# Altium footprint library airu-board.PCBLIB: 118 footprints (part 7 of 8)
Each footprint in its own frame and in the unit in brackets; x right, y up, seen from the top. Pads: shape width x height; smd on the part's side, far side on the other; paste and mask are expansions set on the pad; w line width, h text height; cw(c..) or ccw(c..) is an arc to the next point about the centre after c.
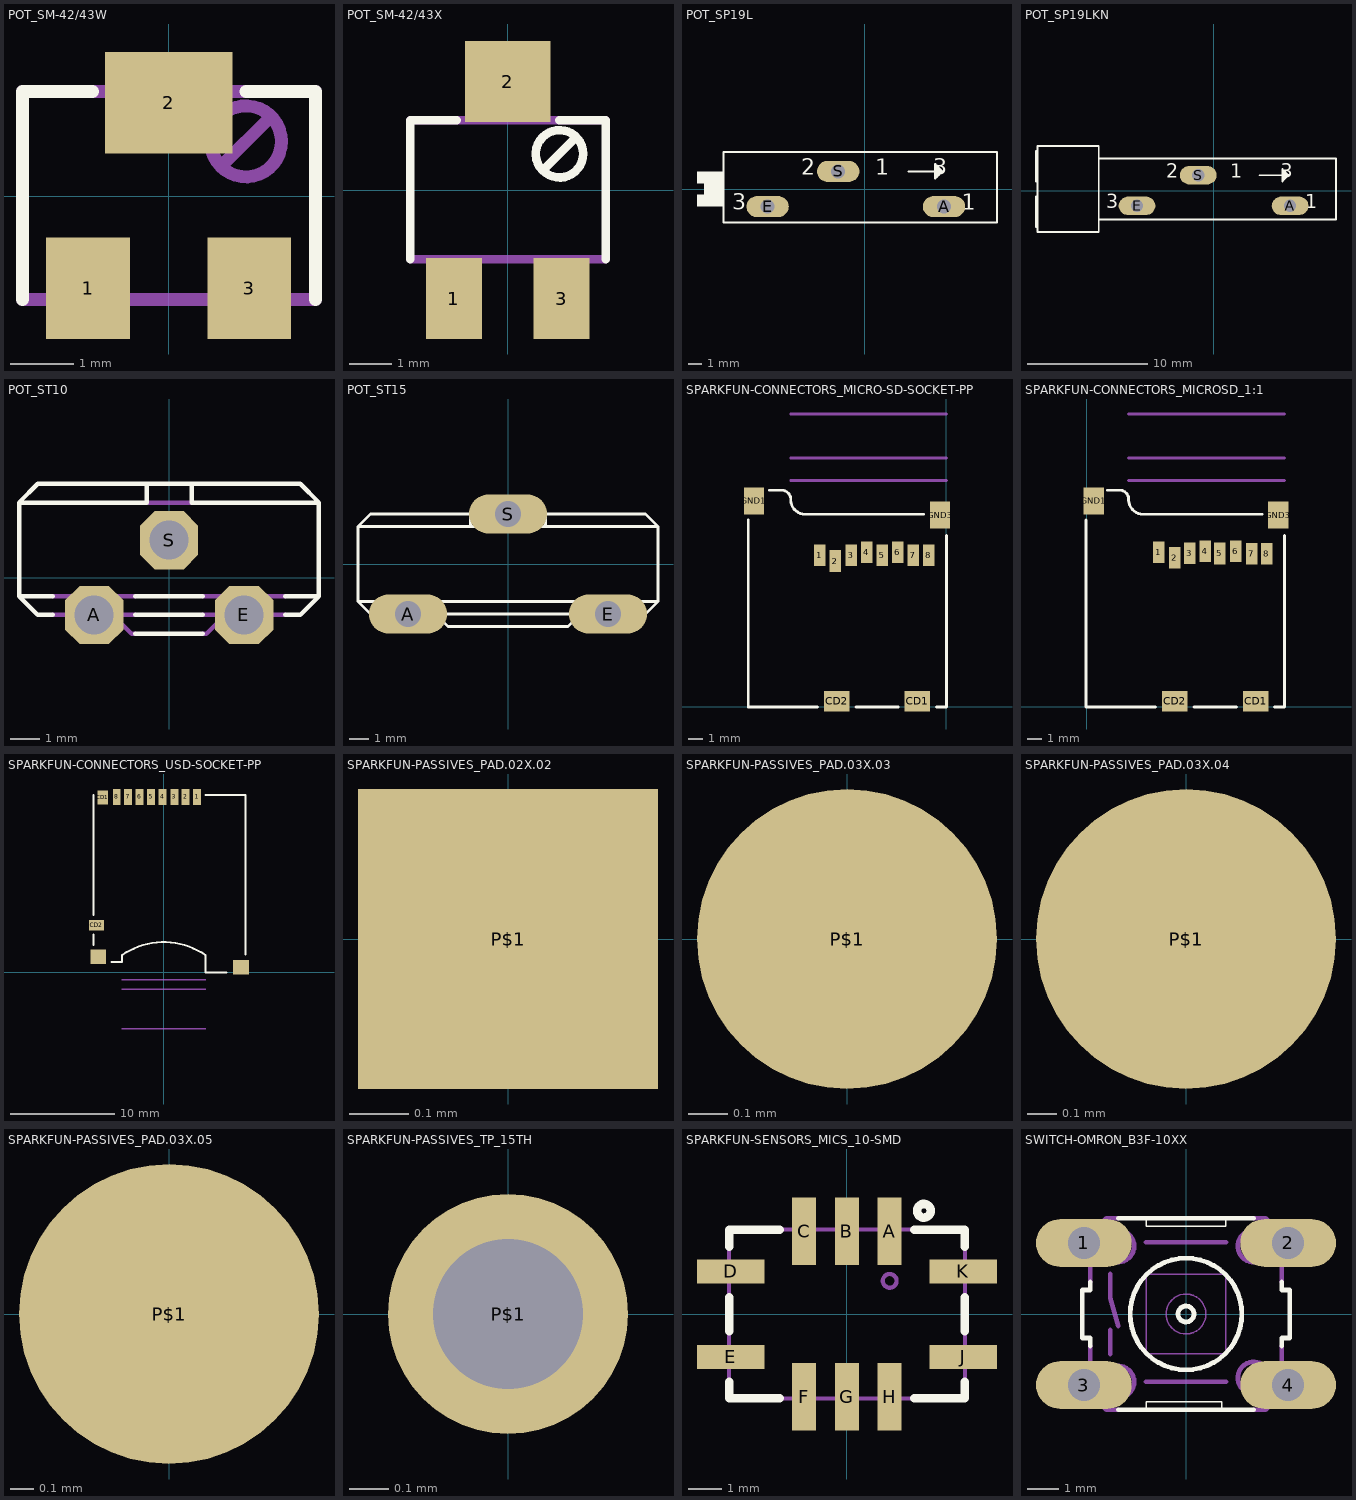
[diagram p6: the footprints below, top view; thin cyan lines are the x and y axes]

## POT_SM-42/43W [mil]
pads (3):
  rect 52x63 smd: 1(-50,-57.09) 3(50,-57.09)
  rect 79x63 smd: 2(0,58)
Top Overlay:
  lines w8: -90.55,-63.98 -90.55,65 -47.24,65 ; 48,65 91,65 91,-63.98
Mechanical 16:
  circle w8: c48,34 r22
  rectangle: -65.94,-76.77 -34.45,-64.96
  rectangle: 35,-76.77 66,-64.96
  rectangle: -25.59,65 26,77
  lines w8: -90.55,-63.98 91,-63.98 ; -90.55,65 91,65 ; 35,21 61,47

## POT_SM-42/43X [mil]
pads (3):
  rect 52x75 smd: 1(-50,-100.39) 3(50,-100.39)
  rect 79x75 smd: 2(0,101)
Top Overlay:
  circle w8: c48,34 r22
  lines w8: -90.55,-63.98 -90.55,65 -47.24,65 ; 35,21 61,47 ; 48,65 91,65 91,-63.98
Mechanical 16:
  rectangle: -65.94,-112.2 -34.45,-64.96
  rectangle: 35,-112.2 66,-64.96
  rectangle: -25.59,65 26,113
  lines w8: -90.55,-63.98 91,-63.98 ; -90.55,65 91,65

## POT_SP19L [mil]
pads (3):
  oval 120x60 hole 40: A(225,-50) E(-275,-50) S(-75,50)
Top Overlay:
  rectangle: -475,-50 -400,-15
  rectangle: -475,15 -400,50
  rectangle: -455,-15 -400,15
  lines w6: 125,50 205,50 ; 205,35 210,40 ; 205,35 205,50 ; 205,35 200,30 200,70 205,65 ; 205,50 220,50 ; 205,50 205,65 ; 205,65 210,60 ; 210,40 210,60 ; 210,40 215,45 ; 210,60 215,55 ; 215,45 220,50 ; 215,45 215,55 ; 215,55 220,50 ; -400,-95 375,-95 375,105 -400,105 -400,-95
  text "1" at 275,-75 h77.5
  text "3" at -375,-75 h77.5
  text "2" at -180,25 h77.5
  text "3" at 195,25 h77.5
  text "1" at 30,25 h77.5

## POT_SP19LKN [mil]
pads (3):
  oval 120x60 hole 40: A(250,-50) E(-250,-50) S(-50,50)
Top Overlay:
  lines w6: 150,50 230,50 ; -575,-120 -575,-20 ; -575,-120 -575,-135 -375,-135 -375,-95 ; -575,-120 -580,-120 -580,-20 -575,-20 ; -575,-20 -575,30 ; -575,30 -575,130 ; -575,30 -580,30 -580,130 -575,130 ; -575,130 -575,145 -375,145 -375,105 ; -375,-95 400,-95 400,105 -375,105 ; -375,-95 -375,105 ; 230,35 235,40 ; 230,35 230,50 ; 230,35 225,30 225,70 230,65 ; 230,50 245,50 ; 230,50 230,65 ; 230,65 235,60 ; 235,40 235,60 ; 235,40 240,45 ; 235,60 240,55 ; 240,45 245,50 ; 240,45 240,55 ; 240,55 245,50
  text "1" at 300,-75 h77.5
  text "3" at -350,-75 h77.5
  text "2" at -155,25 h77.5
  text "1" at 55,25 h77.5
  text "3" at 220,25 h77.5

## POT_ST10 [mil]
pads (3):
  oct 78x78 hole 52: A(-100,-50) E(100,-50) S(0,50)
Top Overlay:
  lines w6: -155,-50 -175,-50 -200,-25 ; -155,-25 -200,-25 ; -45,-75 45,-75 ; -45,-50 45,-50 ; -45,-25 45,-25 ; 155,-50 175,-50 200,-25 ; 155,-25 200,-25 ; -200,-25 -200,100 ; -200,100 -175,125 -30,125 ; -200,100 -30,100 -30,125 ; -30,125 30,125 ; 30,125 30,100 200,100 ; 30,125 175,125 200,100 ; 200,-25 200,100
Mechanical 16:
  lines w6: -155,-50 -75,-50 ; -155,-25 -45,-25 ; -45,-75 -50,-75 -75,-50 ; -45,-50 -75,-50 ; -30,100 30,100 ; 45,-75 50,-75 75,-50 ; 45,-50 75,-50 ; 45,-25 155,-25 ; 155,-50 75,-50

## POT_ST15 [mil]
pads (3):
  oval 156x78 hole 52: A(-200,-100) E(200,-100) S(0,100)
Top Overlay:
  lines w6: -255,-100 -275,-100 -300,-75 ; -255,-75 -300,-75 ; -145,-75 145,-75 ; -55,75 -75,75 ; -55,100 -75,100 ; 55,75 75,75 ; 55,100 75,100 ; 255,-100 275,-100 300,-75 ; 255,-75 300,-75 ; -300,-75 -300,75 ; -300,75 -275,100 -75,100 ; -300,75 -75,75 ; -75,75 -75,100 ; 75,75 300,75 ; 75,75 75,100 ; 75,100 275,100 300,75 ; 300,-75 300,75 ; -145,-100 -120,-125 120,-125 145,-100 -145,-100
Mechanical 16:
  lines w6: -255,-100 -145,-100 ; -255,-75 -145,-75 ; -75,75 75,75 ; -75,100 75,100 ; 145,-100 255,-100 ; 145,-75 255,-75

## SPARKFUN-CONNECTORS_MICRO-SD-SOCKET-PP [mil]
pads (12):
  rect 32x60 smd: 1(-351.97,422) 2(-308.66,406) 3(-265.35,422) 4(-222.05,430) 5(-178.74,422) 6(-135.43,430) 7(-92.13,422) 8(-48.82,422)
  rect 71x56 smd: CD1(-80.71,16) CD2(-305.12,16)
  rect 56x75 smd: GND1(-535.43,573) GND3(-17.72,534)
Top Overlay:
  lines w8: -551.18,520 -551.18,0 -358.27,0 ; -492.13,603 -460.63,603 cw(c-458.85,577.19) -433.07,575 ccw(c-392.91,576.17) -393.7,536 -62.99,536 ; -251.97,0 -133.86,0 ; -27.56,0 0,0 0,477
Mechanical 16:
  lines w8: -433.07,630 0,630 ; -433.07,693 0,693 ; -433.07,815 0,815

## SPARKFUN-CONNECTORS_MICROSD_1:1 [mil]
pads (12):
  rect 32x60 smd: 1(201,430) 2(245,415) 3(287,428) 4(330,433) 5(371,427) 6(415,433) 7(459,426) 8(501,426)
  rect 71x56 smd: CD1(470,16) CD2(245,16)
  rect 56x75 smd: GND1(20,573) GND3(533,534)
Top Overlay:
  lines w8: -1.18,520 -1.18,0 192,0 ; 58,603 90,603 cw(c91.5,577.43) 117,575 ccw(c157.47,576.5) 157,536 488,536 ; 299,0 417,0 ; 523,0 550,0 550,477
Mechanical 16:
  lines w8: 117,630 550,630 ; 117,693 550,693 ; 117,815 550,815

## SPARKFUN-CONNECTORS_USD-SOCKET-PP [mil]
pads (12):
  rect 30x60 smd: 1(126,662) 2(83,662) 3(40,662) 4(-3.94,662) 5(-47.24,662) 6(-90.55,662) 7(-133.86,662) 8(-177.17,662)
  rect 40x52 smd: CD1(-230.31,660)
  rect 56x40 smd: CD2(-252.95,178)
  rect 60x54 smd: GND1(-247.05,59) GND2(291,19)
Top Overlay:
  lines w8: -264.76,103 -264.76,142 ; -264.76,217 -264.76,670 ; -196.85,40 -157.48,40 -157.48,65 cw(c0.26,-162.74) 158,65 158,0 237,0 ; 158,670 309,670 309,67
Mechanical 16:
  lines w5: -157.48,-212.6 158,-212.6 ; -157.48,-62.99 158,-62.99 ; -157.48,-27.56 158,-27.56

## SPARKFUN-PASSIVES_PAD.02X.02 [mil]
pads (1):
  rect 20x20 smd: P$1(0,0)

## SPARKFUN-PASSIVES_PAD.03X.03 [mil]
pads (1):
  rrect100% 30x30 smd: P$1(0,0)

## SPARKFUN-PASSIVES_PAD.03X.04 [mil]
pads (1):
  rrect100% 40x40 smd: P$1(0,0)

## SPARKFUN-PASSIVES_PAD.03X.05 [mil]
pads (1):
  rrect100% 50x50 smd: P$1(0,0)

## SPARKFUN-PASSIVES_TP_15TH [mil]
pads (1):
  round 24 hole 15: P$1(0,0)
Bottom Solder:
  circle w0: c0,0 r15

## SPARKFUN-SENSORS_MICS_10-SMD [mil]
pads (10):
  rect 28x79 smd: A(50,97) B(0,97) C(-50,97) F(-50,-96.46) G(0,-96.46) H(50,-96.46)
  rect 79x28 smd: D(-135.83,50) E(-135.83,-50) J(136,-50) K(136,50)
Top Overlay:
  circle w10: c90,121 r8
  lines w10: -137.8,-78.74 -137.8,-98.43 -78.74,-98.43 ; -137.8,-19.68 -137.8,20 ; -137.8,79 -137.8,99 -78.74,99 ; 79,-98.43 138,-98.43 138,-78.74 ; 79,99 138,99 138,79 ; 138,-19.68 138,20
Mechanical 16:
  circle w5: c50,39 r8
  rectangle: -11.81,60 12,99
  rectangle: -61.81,60 -38.19,99
  rectangle: 39,60 62,99
  rectangle: -61.81,-98.43 -38.19,-59.06
  rectangle: -11.81,-98.43 12,-59.06
  rectangle: 39,-98.43 62,-59.06
  rectangle: -137.8,39 -98.43,62
  rectangle: -137.8,-61.81 -98.43,-38.19
  rectangle: 99,39 138,62
  rectangle: 99,-61.81 138,-38.19
  lines w5: -137.8,-98.43 138,-98.43 138,99 -137.8,99 -137.8,-98.43

## SWITCH-OMRON_B3F-10XX [mil]
pads (4):
  oval 120x60 hole 40: 1(-128,89) 2(128,89) 3(-128,-89) 4(128,-89)
Top Overlay:
  circle w6: c0,0 r70
  circle w6: c0,0 r10
  lines w2: -50,-120 -50,-110 45,-110 45,-120 ; -50,120 -50,110 50,110 50,120
  lines w6: -120,-40 -120,-30 -130,-30 -130,30 -120,30 -120,40 ; -85,-120 -50,-120 45,-120 85,-120 ; -85,120 -50,120 50,120 85,120 ; 120,-40 120,-30 130,-30 130,30 120,30 120,40
Mechanical 16:
  circle w6: c-85,-85 r20
  circle w6: c85,-80 r20
  circle w6: c85,85 r20
  circle w6: c-85,85 r20
  circle w2: c0,0 r25
  lines w2: -50,-50 -50,50 50,50 50,-50 -50,-50
  lines w6: -120,-40 -120,-100 -100,-120 -85,-120 ; -120,40 -120,100 -100,120 -85,120 ; -95,-50 -95,-20 ; -95,50 -95,20 -85,-15 ; -50,-85 50,-85 ; -50,90 50,90 ; 85,-120 100,-120 120,-100 120,-40 ; 85,120 100,120 120,100 120,40
  text "1" at -170,65 h77.5
  text "2" at 140,60 h77.5
  text "3" at -180,-110 h77.5
  text "4" at 140,-110 h77.5